# EAGLE library part TEXAS_INSTRUMENTS-MOTOR_PWM_DRIVER-DRV8833CPWP (library Module_ICs)
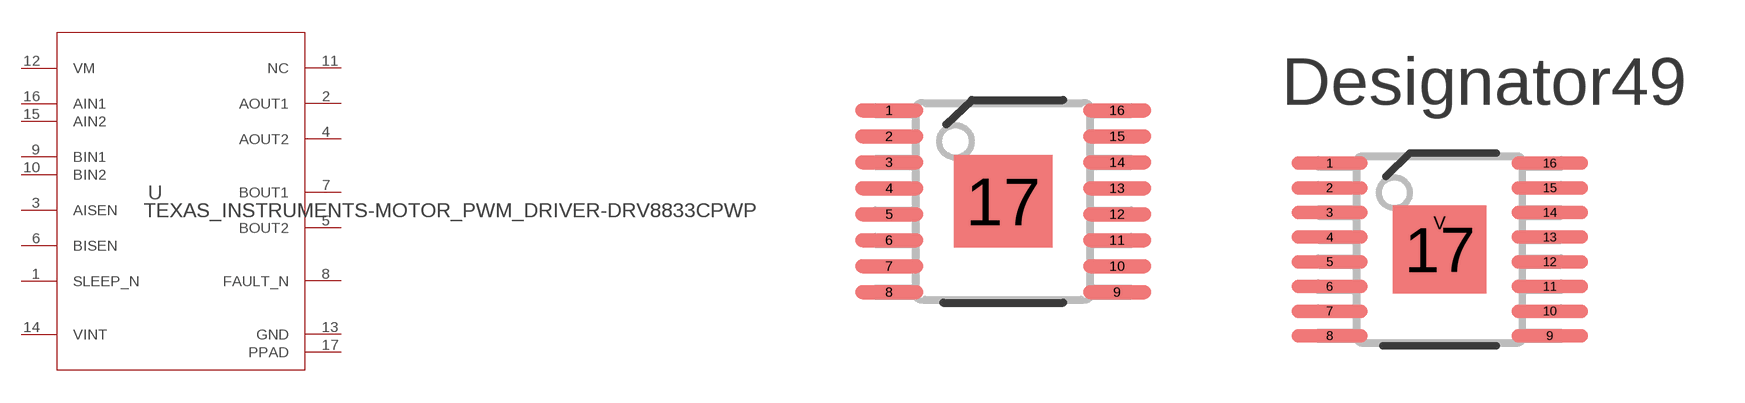
[diagram p71: symbol with the pads of PWP0016K_N; footprints PWP0016K_N, PWP0016K_M]

Designator prefix U

## TEXAS_INSTRUMENTS-MOTOR_PWM_DRIVER-DRV8833CPWP (MANUFACTURER: Texas Instruments; PARTNUMBER: DRV8833CPWPR; REFDES: RefDes; TYPE: TYPE; VALUE: Value)  [PWP0016K_N]
1  SLEEP_N  in
2  AOUT1  hiz
3  AISEN  in
4  AOUT2  hiz
5  BOUT2  hiz
6  BISEN  in
7  BOUT1  hiz
8  FAULT_N  oc
9  BIN1  in
10  BIN2  in
11  NC  pas
12  VM  pwr
13  GND  pwr
14  VINT  pas
15  AIN2  in
16  AIN1  in
17  PPAD  pwr

## TEXAS_INSTRUMENTS-MOTOR_PWM_DRIVER-DRV8833CPWPPWP0016K_M (MANUFACTURER: Texas Instruments; PARTNUMBER: DRV8833CPWPR; REFDES: RefDes; TYPE: TYPE; VALUE: Value)  [PWP0016K_M]
Pads as for PWP0016K_N

## TEXAS_INSTRUMENTS-MOTOR_PWM_DRIVER-DRV8833CPWPPWP0016K_L (MANUFACTURER: Texas Instruments; PARTNUMBER: DRV8833CPWPR; REFDES: RefDes; TYPE: TYPE; VALUE: Value)  [PWP0016K_L]
Pads as for PWP0016K_N

## Footprint PWP0016K_N (pad centres in mm)
smd 1.7 x 0.35: 1 -2.85,2.275; 2 -2.85,1.625; 3 -2.85,0.975; 4 -2.85,0.325; 5 -2.85,-0.325; 6 -2.85,-0.975; 7 -2.85,-1.625; 8 -2.85,-2.275; 9 2.85,-2.275; 10 2.85,-1.625; 11 2.85,-0.975; 12 2.85,-0.325; 13 2.85,0.325; 14 2.85,0.975; 15 2.85,1.625; 16 2.85,2.275
smd 2.46 x 2.31: 17 0,0

## Footprint PWP0016K_M (pad centres in mm)
smd 2 x 0.35: 1 -2.9,2.275; 2 -2.9,1.625; 3 -2.9,0.975; 4 -2.9,0.325; 5 -2.9,-0.325; 6 -2.9,-0.975; 7 -2.9,-1.625; 8 -2.9,-2.275; 9 2.9,-2.275; 10 2.9,-1.625; 11 2.9,-0.975; 12 2.9,-0.325; 13 2.9,0.325; 14 2.9,0.975; 15 2.9,1.625; 16 2.9,2.275
smd 2.46 x 2.31: 17 0,0
smd 0.5 x 0.5: V 0,0.7

## Footprint PWP0016K_L (pad centres in mm)
smd 1.4 x 0.35: 1 -2.8,2.275; 2 -2.8,1.625; 3 -2.8,0.975; 4 -2.8,0.325; 5 -2.8,-0.325; 6 -2.8,-0.975; 7 -2.8,-1.625; 8 -2.8,-2.275; 9 2.8,-2.275; 10 2.8,-1.625; 11 2.8,-0.975; 12 2.8,-0.325; 13 2.8,0.325; 14 2.8,0.975; 15 2.8,1.625; 16 2.8,2.275
smd 2.46 x 2.31: 17 0,0
smd 0.5 x 0.5: V 0,0.7